# Altium footprint library STM32L031_TSSOP20_Dev_Board.PcbLib: 17 footprints (part 1 of 2)
Each footprint in its own frame and in the unit in brackets; x right, y up, seen from the top. Pads: shape width x height; smd on the part's side, far side on the other; paste and mask are expansions set on the pad; w line width, h text height; cw(c..) or ccw(c..) is an arc to the next point about the centre after c.
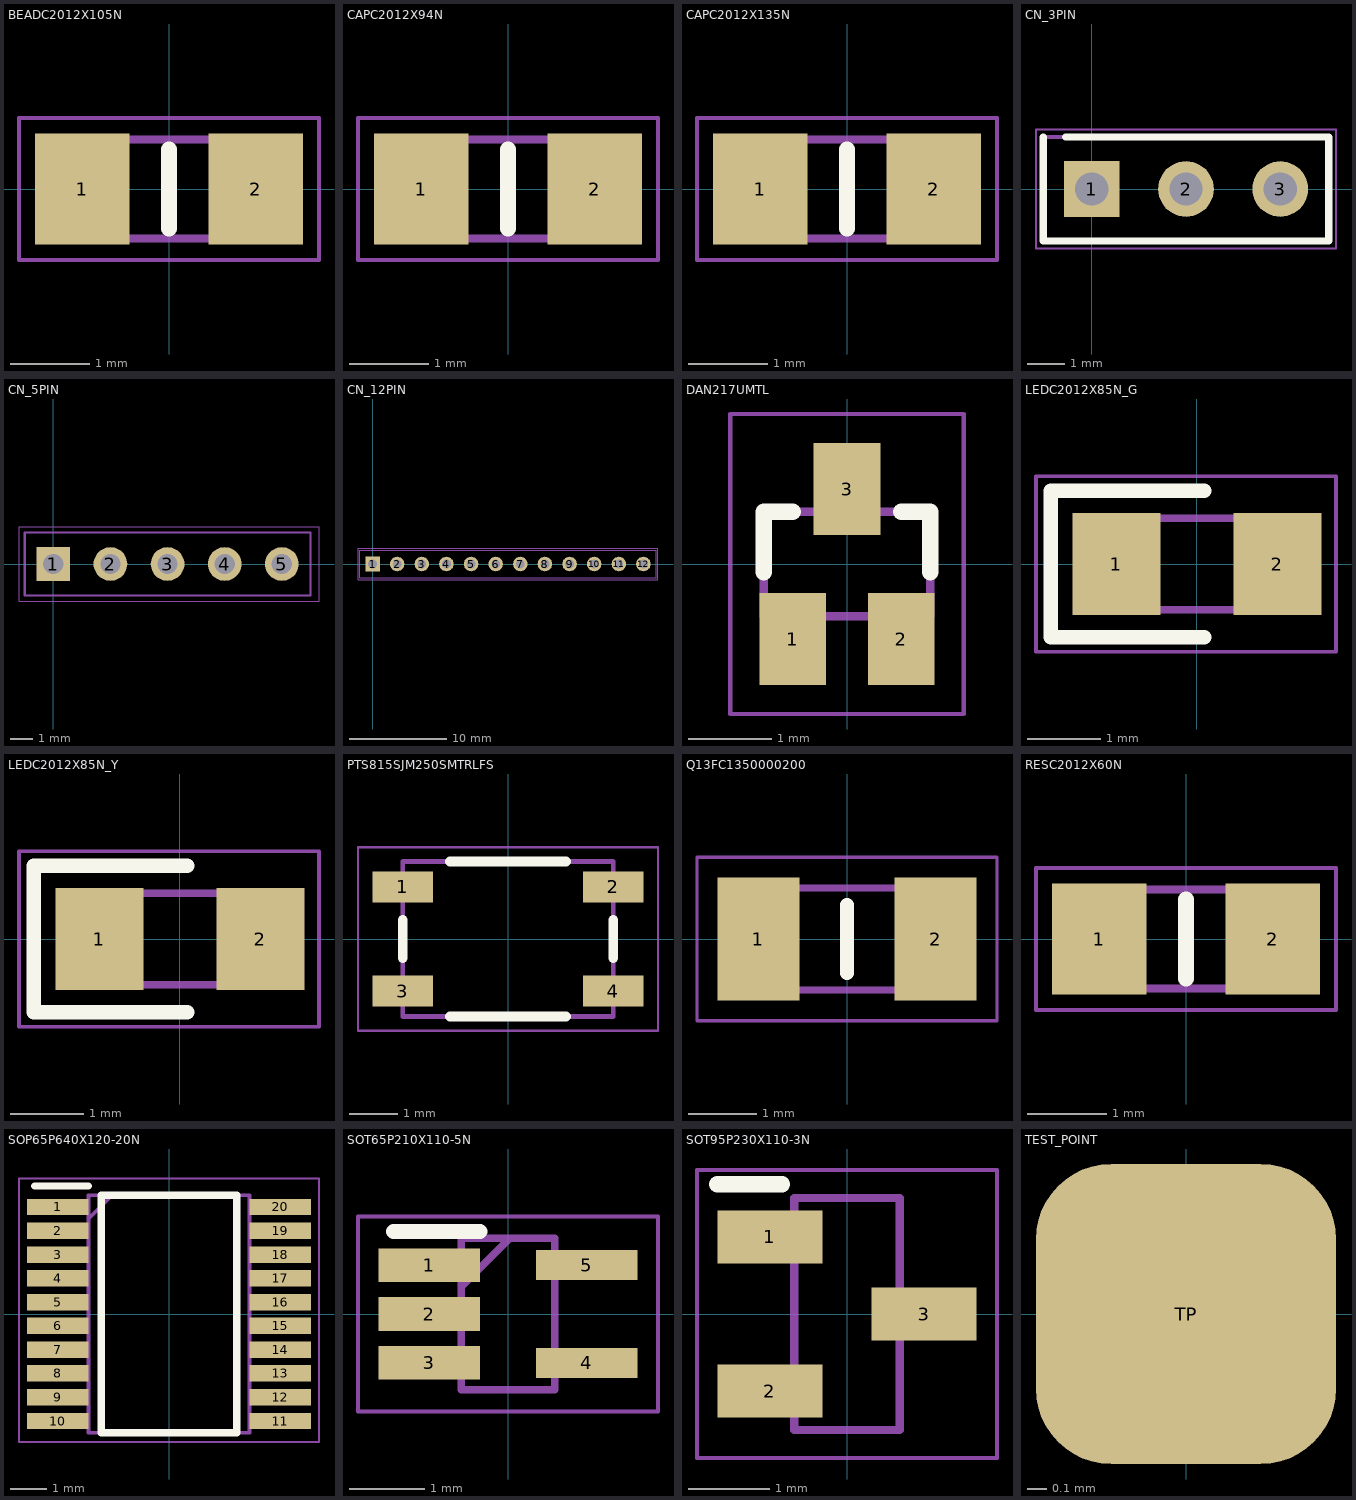
[diagram p0: the footprints below, top view; thin cyan lines are the x and y axes]

## BEADC2012X105N [mm]
pads (2):
  rect 1.2x1.4 smd: 1(-1.1,0) 2(1.1,0)
Top Overlay:
  lines w0.2: 0,-0.5 0,0.5
Mechanical 13:
  lines w0.1: -1,-0.625 -1,0.625 1,0.625 1,-0.625 -1,-0.625
Mechanical 15:
  lines w0.05: -1.9,-0.9 1.9,-0.9 1.9,0.9 -1.9,0.9 -1.9,-0.9
3D body "FBMJ2125HS250NT.stp": height 1.05, standoff 0, extent -1,-0.625 1,0.625

## CAPC2012X94N [mm]
pads (2):
  rect 1.2x1.4 smd: 1(-1.1,0) 2(1.1,0)
Top Overlay:
  lines w0.2: 0,-0.5 0,0.5
Mechanical 13:
  lines w0.1: -1,-0.625 -1,0.625 1,0.625 1,-0.625 -1,-0.625
Mechanical 15:
  lines w0.05: -1.9,-0.9 1.9,-0.9 1.9,0.9 -1.9,0.9 -1.9,-0.9
3D body "08055A4R3CAT2A.stp": height 0.94, standoff 0, extent -1.005,-0.625 1.005,0.625

## CAPC2012X135N [mm]
pads (2):
  rect 1.2x1.4 smd: 1(-1.1,0) 2(1.1,0)
Top Overlay:
  lines w0.2: 0,-0.5 0,0.5
Mechanical 13:
  lines w0.1: -1,-0.625 1,-0.625 1,0.625 -1,0.625 -1,-0.625
Mechanical 15:
  lines w0.05: -1.9,-0.9 -1.9,0.9 1.9,0.9 1.9,-0.9 -1.9,-0.9
3D body "885012107015.stp": height 1.35, standoff 0, extent -1,-0.625 1,0.625

## CN_3PIN [mm] "Connector; Edge; 22 Position"
pads (3):
  rect 1.5x1.5 hole 0.9: 1(0,0)
  round 1.5 hole 0.9: 2(2.54,0) 3(5.08,0)
Top Overlay:
  lines w0.2: -1.3,1.4 -1.3,-1.4 6.38,-1.4 6.38,1.4 -0.7,1.4
Mechanical 13:
  lines w0.1: -1.3,-1.4 -1.3,1.4 6.38,1.4 6.38,-1.4 -1.3,-1.4
Mechanical 15:
  lines w0.05: -1.5,-1.6 6.58,-1.6 6.58,1.6 -1.5,1.6 -1.5,-1.6
3D body "pin_header_aw140-eg-g03d.SLDPRT": height 8.2, standoff -3, extent -1.17,-1.246 6.45,1.253

## CN_5PIN [mm] "Connector; Edge; 22 Position"
pads (5):
  rect 1.5x1.5 hole 0.9: 1(0,0)
  round 1.5 hole 0.9: 2(2.54,0) 3(5.08,0) 4(7.62,0) 5(10.16,0)
Mechanical 13:
  lines w0.1: -1.27,-1.397 -1.27,1.397 11.43,1.397 11.43,-1.397 -1.27,-1.397
Mechanical 15:
  lines w0.05: -1.524,-1.651 11.811,-1.651 11.811,1.651 -1.524,1.651 -1.524,-1.651
3D body "pin_header_aw140-eg-g05d.SLDPRT": height 1.8, standoff -9.4, extent -1.17,-1.253 11.53,1.246

## CN_12PIN [mm] "Connector; Edge; 22 Position"
pads (12):
  rect 1.5x1.5 hole 0.9: 1(0,0)
  round 1.5 hole 0.9: 2(2.54,0) 3(5.08,0) 4(7.62,0) 5(10.16,0) 6(12.7,0) 7(15.24,0) 8(17.78,0) 9(20.32,0) 10(22.86,0) 11(25.4,0) 12(27.94,0)
Mechanical 13:
  lines w0.1: -1.3,-1.4 -1.3,1.4 29.24,1.4 29.24,-1.4 -1.3,-1.4
Mechanical 15:
  lines w0.05: -1.5,-1.6 29.44,-1.6 29.44,1.6 -1.5,1.6 -1.5,-1.6
3D body "pin_header_aw140-eg-g12d.SLDPRT": height 1.8, standoff -9.4, extent -1.17,-1.253 29.31,1.246

## DAN217UMTL [mm]
pads (3):
  rect 0.8x1.1 smd: 1(-0.65,-0.9) 2(0.65,-0.9) 3(0,0.9)
Top Overlay:
  lines w0.2: -1,-0.1 -1,0.6 -1,0.625 -0.65,0.625 ; 0.65,0.625 1,0.625 1,-0.1
Mechanical 13:
  lines w0.1: -1,-0.625 1,-0.625 1,0.625 -1,0.625 -1,-0.625
Mechanical 15:
  lines w0.05: -1.4,-1.8 -1.4,1.8 1.4,1.8 1.4,-1.8 -1.4,-1.8
3D body "RB715UMTL.stp": height 1.1, standoff 0, extent -1,-1.17 1,1.17

## LEDC2012X85N_G [mm]
pads (2):
  rect 1.2x1.4 smd: 1(-1.1,0) 2(1.1,0)
Top Overlay:
  lines w0.2: 0.1,-1 -2,-1 -2,1 0.1,1
Mechanical 13:
  lines w0.1: -1,0.208 -0.583,0.625 ; -1,-0.625 -1,0.625 1,0.625 1,-0.625 -1,-0.625
Mechanical 15:
  lines w0.05: -2.2,-1.2 -2.2,1.2 1.9,1.2 1.9,-1.2 -2.2,-1.2
3D body "User Library-LED-0805-G.sldprt": height 1.1, standoff 0, extent -1,-0.625 1,0.625

## LEDC2012X85N_Y [mm]
pads (2):
  rect 1.2x1.4 smd: 1(-1.1,0) 2(1.1,0)
Top Overlay:
  lines w0.2: 0.1,-1 -2,-1 -2,1 0.1,1
Mechanical 13:
  lines w0.1: -1,0.208 -0.583,0.625 ; -1,-0.625 1,-0.625 1,0.625 -1,0.625 -1,-0.625
Mechanical 15:
  lines w0.05: -2.2,-1.2 1.9,-1.2 1.9,1.2 -2.2,1.2 -2.2,-1.2
3D body "User Library-LED-0805-Y.sldprt": height 1.1, standoff 0, extent -1,-0.625 1,0.625

## PTS815SJM250SMTRLFS [mm]
pads (4):
  rect 1.25x0.65 smd: 1(-2.175,1.075) 2(2.175,1.075) 3(-2.175,-1.075) 4(2.175,-1.075)
Top Overlay:
  lines w0.2: -2.175,-0.4 -2.175,0.4 ; -1.2,-1.6 1.2,-1.6 ; -1.2,1.6 1.2,1.6 ; 2.175,-0.4 2.175,0.4
Mechanical 13:
  lines w0.1: -2.175,-1.6 2.175,-1.6 2.175,1.6 -2.175,1.6 -2.175,-1.6
Mechanical 15:
  lines w0.05: -3.1,-1.9 3.1,-1.9 3.1,1.9 -3.1,1.9 -3.1,-1.9
3D body "PTS815_SJM_250_SMTR_LFS.stp": height 2.64, standoff 0.04, extent -2.3,-1.6 2.3,1.6

## Q13FC1350000200 [mm]
pads (2):
  rect 1.2x1.8 smd: 1(-1.3,0) 2(1.3,0)
Top Overlay:
  lines w0.2: 0,-0.5 0,0.5
Mechanical 13:
  lines w0.1: -1.6,-0.75 1.6,-0.75 1.6,0.75 -1.6,0.75 -1.6,-0.75
Mechanical 15:
  lines w0.05: -2.2,-1.2 2.2,-1.2 2.2,1.2 -2.2,1.2 -2.2,-1.2
3D body "FC-135_32.7680KA-AG5.stp": height 0.9, standoff 0, extent -1.6,-0.75 1.6,0.75

## RESC2012X60N [mm]
pads (2):
  rect 1.2x1.4 smd: 1(-1.1,0) 2(1.1,0)
Top Overlay:
  lines w0.2: 0,-0.5 0,0.5
Mechanical 13:
  lines w0.1: -1,-0.625 -1,0.625 1,0.625 1,-0.625 -1,-0.625
Mechanical 15:
  lines w0.05: -1.9,-0.9 1.9,-0.9 1.9,0.9 -1.9,0.9 -1.9,-0.9
3D body "RC0805FR-0710KL.stp": height 0.6, standoff 0, extent -1,-0.625 1,0.625

## SOP65P640X120-20N [mm]
pads (20):
  rect 1.675x0.45 smd: 1(-3.038,2.925) 2(-3.038,2.275) 3(-3.038,1.625) 4(-3.038,0.975) 5(-3.038,0.325) 6(-3.038,-0.325) 7(-3.038,-0.975) 8(-3.038,-1.625) 9(-3.038,-2.275) 10(-3.038,-2.925) 11(3.038,-2.925) 12(3.038,-2.275) 13(3.038,-1.625) 14(3.038,-0.975) 15(3.038,-0.325) 16(3.038,0.325) 17(3.038,0.975) 18(3.038,1.625) 19(3.038,2.275) 20(3.038,2.925)
Top Overlay:
  lines w0.2: -3.675,3.5 -2.2,3.5 ; -1.85,-3.25 -1.85,3.25 1.85,3.25 1.85,-3.25 -1.85,-3.25
Mechanical 13:
  lines w0.1: -2.2,2.6 -1.55,3.25 ; -2.2,-3.25 -2.2,3.25 2.2,3.25 2.2,-3.25 -2.2,-3.25
Mechanical 15:
  lines w0.05: -4.1,-3.5 -4.1,3.7 4.1,3.7 4.1,-3.5 -4.1,-3.5
3D body "STM32L031F4P6.stp": height 1.2, standoff 0, extent -3.2,-3.25 3.2,3.25

## SOT65P210X110-5N [mm]
pads (5):
  rect 1.35x0.45 smd: 1(-1.05,0.65) 2(-1.05,0) 3(-1.05,-0.65)
  rect 1.35x0.4 smd: 4(1.05,-0.65) 5(1.05,0.65)
Top Overlay:
  lines w0.2: -1.525,1.1 -0.375,1.1
Mechanical 13:
  lines w0.1: -0.625,0.362 0.025,1.012 ; -0.625,-1.012 0.625,-1.012 0.625,1.012 -0.625,1.012 -0.625,-1.012
Mechanical 15:
  lines w0.05: -2,-1.3 2,-1.3 2,1.3 -2,1.3 -2,-1.3
3D body "MIC5365-3.3YC5-TR.stp": height 1.1, standoff 0, extent -1.05,-1.012 1.05,1.012

## SOT95P230X110-3N [mm]
pads (3):
  rect 1.3x0.65 smd: 1(-0.95,0.95) 2(-0.95,-0.95) 3(0.95,0)
Top Overlay:
  lines w0.2: -1.6,1.6 -0.8,1.6
Mechanical 13:
  lines w0.1: -0.65,-1.43 0.65,-1.43 0.65,1.43 -0.65,1.43 -0.65,-1.43
Mechanical 15:
  lines w0.05: -1.85,-1.775 1.85,-1.775 1.85,1.775 -1.85,1.775 -1.85,-1.775
3D body "AP2120N-3.3TRG1.stp": height 1.2, standoff 0, extent -1.2,-1.45 1.2,1.45

## TEST_POINT [mil] "Test point"
pads (1):
  rrect50% 60x60 smd: TP(0,0)